# Altium schematic symbol library OErs_Drone.SchLib: 12 symbols
Pins are listed as number, name and electrical type; pins without a type are passive.

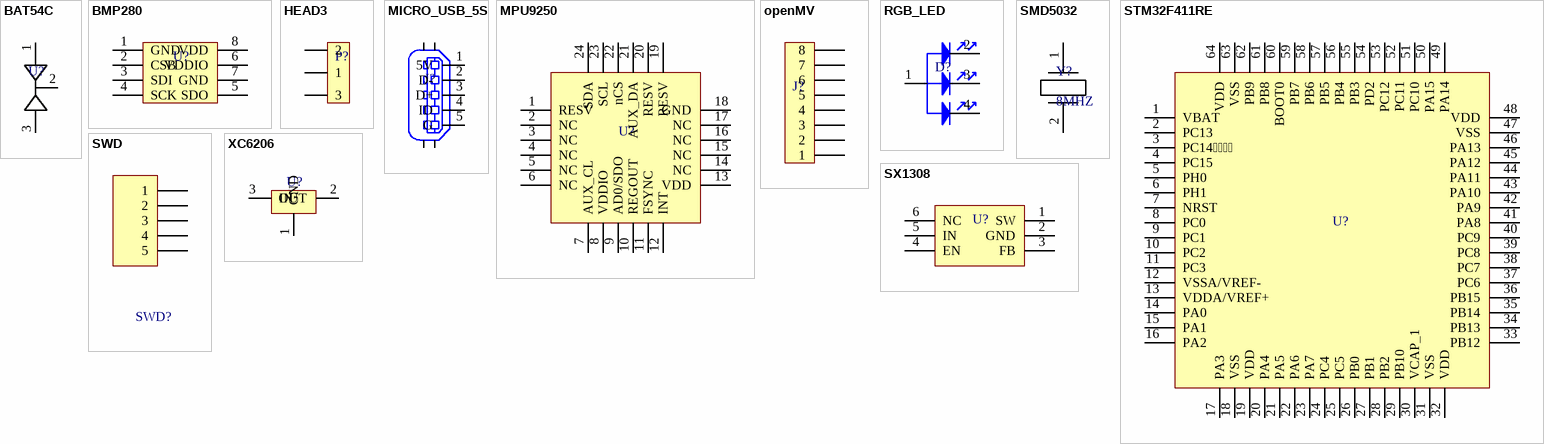
[diagram p0: symbols BAT54C to XC6206]

## BAT54C
designator U?
二通一限流
pins: 1, 2, 3

## BMP280
designator U?
气压计
pins: 1 GND, 2 CSB, 3 SDI, 4 SCK, 5 SDO, 6 VDDIO, 7 GND, 8 VDD

## HEAD3
designator P?
3脚插口
pins: 1, 2, 3

## MICRO_USB_5S
designator J?
USB接口
pins: 1 5V, 2 D-, 3 D+, 4 ID, 5 G, 6  , 7  , 8  , 9  

## MPU9250
designator U?
9轴陀螺仪传感器
pins: 1 RESV, 2 NC, 3 NC, 4 NC, 5 NC, 6 NC, 7 AUX_CL, 8 VDDIO, 9 AD0/SDO, 10 REGOUT, 11 FSYNC, 12 INT, 13 VDD, 14 NC, 15 NC, 16 NC, 17 NC, 18 GND, 19 RESV, 20 RESV, 21 AUX_DA, 22 nCS, 23 SCL, 24 SDA

## openMV
designator J?
外接openmv模组
pins: 1, 2, 3, 4, 5, 6, 7, 8

## RGB_LED
designator D?
全彩RGB
pins: 1  , 2  , 3  , 4  

## SMD5032
designator Y?, comment 8MHZ
晶振
pins: 1, 2

## STM32F411RE
designator U?
单片机
pins: 1 VBAT, 2 PC13, 3 PC14, 4 PC15, 5 PH0, 6 PH1, 7 NRST, 8 PC0, 9 PC1, 10 PC2, 11 PC3, 12 VSSA/VREF-, 13 VDDA/VREF+, 14 PA0, 15 PA1, 16 PA2, 17 PA3, 18 VSS, 19 VDD, 20 PA4, 21 PA5, 22 PA6, 23 PA7, 24 PC4, 25 PC5, 26 PB0, 27 PB1, 28 PB2, 29 PB10, 30 VCAP_1, 31 VSS, 32 VDD, 33 PB12, 34 PB13, 35 PB14, 36 PB15, 37 PC6, 38 PC7, 39 PC8, 40 PC9, 41 PA8, 42 PA9, 43 PA10, 44 PA11, 45 PA12, 46 PA13, 47 VSS, 48 VDD, 49 PA14, 50 PA15, 51 PC10, 52 PC11, 53 PC12, 54 PD2, 55 PB3, 56 PB4, 57 PB5, 58 PB6, 59 PB7, 60 BOOT0, 61 PB8, 62 PB9, 63 VSS, 64 VDD

## SWD
designator SWD?  (value not drawn)
Header, 5-Pin; LatestRevisionDate: 17-Jul-2002; LatestRevisionNote: Re-released for DXP Platform.; Publisher: Altium Limited
footprint SH1_0X5P_WT
pins: 1, 2, 3, 4, 5

## SX1308
designator U?
电源控制
pins: 1 SW, 2 GND, 3 FB, 4 EN, 5 IN, 6 NC

## XC6206
designator U?
5to3.3
pins: 1 GND, 2 OUT, 3 IN